# EAGLE library part LT3469 (library PowerProducts)
LT-Spice library generated with : ltspice.ulp from: D:/Program Files (x86)/LTC/LTspiceIV/lib/sym/PowerProducts/LT3468-1*.asy at 04.10.2012 21:45:13
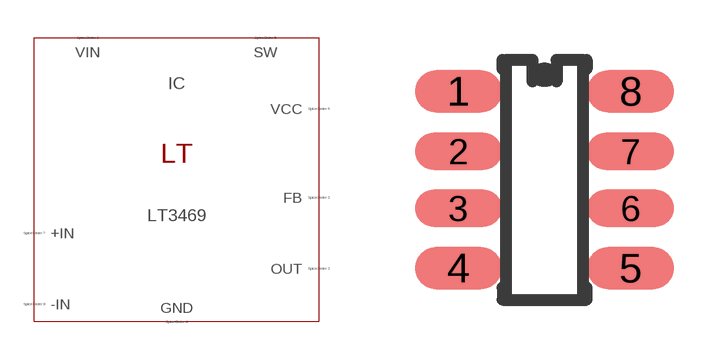
[diagram p13: symbol with the pads of SOT8(TS8); footprint SOT8(TS8)]

Designator prefix IC

## LT3469 (SPICEMODEL: LT1762.lib; SPICEPREFIX: X; VALUE2: LT1762)  [SOT8(TS8)]
1  OUT  pas
2  FB  pas
3  VIN  pas
4  GND  pas
5  SW  pas
6  VCC  pas
7  +IN  pas
8  -IN  pas

## Footprint SOT8(TS8) (pad centres in mm)
Package generated from: SOT8(TS8).asc (!PADS-POWERPCB-V5.0-BASIC! DESIGN DATABASE ASCII FILE 1.0) with :import-pads-powerpcb-v5.ulp Version 1.0.1 at 04.10.2012 14:11:36
smd 2.175 x 1.05: 1 -2.152,2.212; 4 -2.152,-2.212; 5 2.152,-2.212; 8 2.152,2.212
smd 2.175 x 0.93: 2 -2.152,0.713; 3 -2.152,-0.713; 6 2.152,-0.713; 7 2.152,0.713